# Altium footprint library IND-SMD_L7.3-W6.6.PcbLib: 1 footprints
Each footprint in its own frame and in the unit in brackets; x right, y up, seen from the top. Pads: shape width x height; smd on the part's side, far side on the other; paste and mask are expansions set on the pad; w line width, h text height; cw(c..) or ccw(c..) is an arc to the next point about the centre after c.
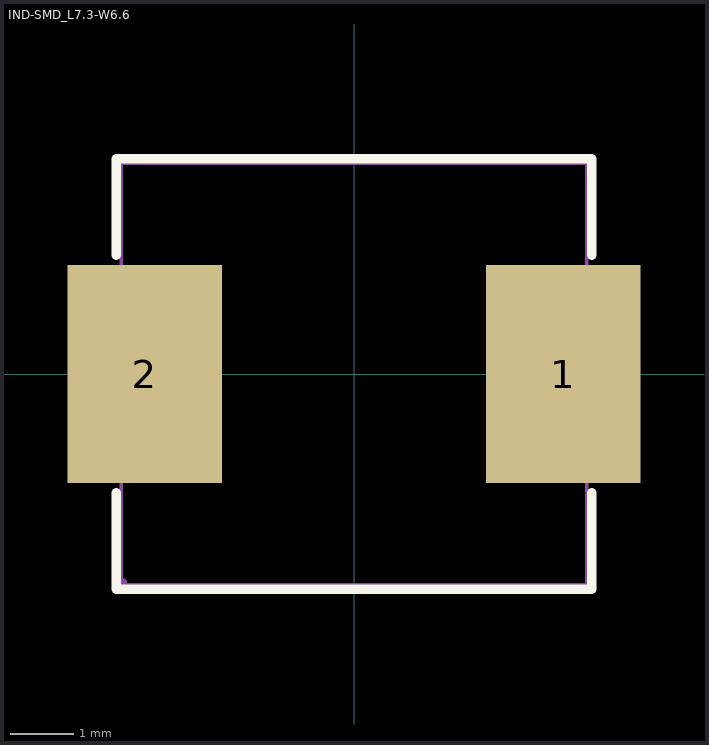
[diagram p0: the footprint, top view; thin cyan lines are the x and y axes]

## IND-SMD_L7.3-W6.6 [mm]
pads (2):
  rect 2.424x3.42 smd: 1(3.278,0) 2(-3.278,0)
Top Overlay:
  lines w0.152: -3.726,-1.862 -3.726,-3.376 3.726,-3.376 3.726,-1.862 ; -3.726,1.862 -3.726,3.376 3.726,3.376 3.726,1.862
Mechanical 15:
  region: 3.65,-1.5 3.65,1.5 2.15,1.5 2.15,-1.5
  region: -3.65,-1.5 -3.65,1.5 -2.15,1.5 -2.15,-1.5
  region: -3.56,-3.27 -3.56,-3.245 -3.595,-3.21 -3.645,-3.21 -3.68,-3.245 -3.68,-3.27 -3.68,-3.295 -3.645,-3.33 -3.595,-3.33 -3.56,-3.295 -3.56,-3.27
  lines w0.051: -3.65,-3.3 3.65,-3.3 3.65,3.3 -3.65,3.3 -3.65,-3.3